# EAGLE library part INA28* (library ct-bot)
High-Accuracy, Wide Common-Mode Range, Bidirectional Current Shunt Monitors, Zero-Drift Series
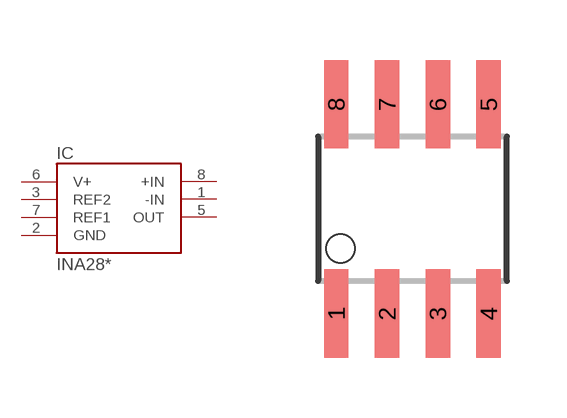
[diagram p19: symbol with the pads of SO08; footprint SO08]

Designator prefix IC

## INA28AID (MF: TEXAS INSTRUMENTS)  [SO08]
1  -IN  in
2  GND  pwr
3  REF2  in
5  OUT  out
6  V+  pwr
7  REF1  in
8  +IN  in

## Footprint SO08 (pad centres in mm)
Small Outline Package
smd 0.61 x 2.21: 1 -1.905,-2.616; 2 -0.635,-2.616; 3 0.635,-2.616; 4 1.905,-2.616; 5 1.905,2.616; 6 0.635,2.616; 7 -0.635,2.616; 8 -1.905,2.616